# Altium footprint library PSOP-8.PcbLib: 1 footprints
Each footprint in its own frame and in the unit in brackets; x right, y up, seen from the top. Pads: shape width x height; smd on the part's side, far side on the other; paste and mask are expansions set on the pad; w line width, h text height; cw(c..) or ccw(c..) is an arc to the next point about the centre after c.
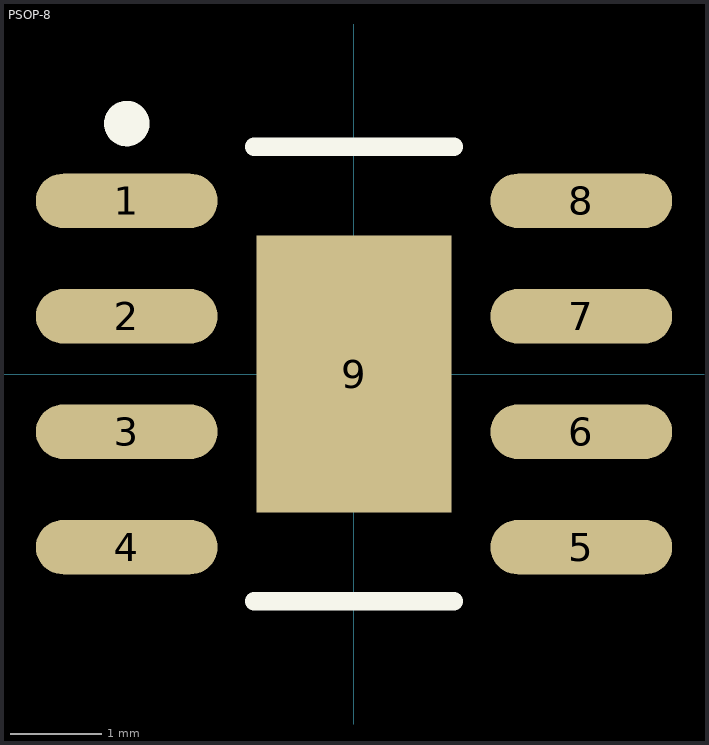
[diagram p0: the footprint, top view; thin cyan lines are the x and y axes]

## PSOP-8 [mm]
pads (9):
  oval 2x0.6 smd: 1(-2.5,1.905) 2(-2.5,0.635) 3(-2.5,-0.635) 4(-2.5,-1.905) 5(2.5,-1.905) 6(2.5,-0.635) 7(2.5,0.635) 8(2.5,1.905)
  rect 2.15x3.05 smd: 9(0,0)
Top Overlay:
  circle w0.25: c-2.5,2.755 r0.125
  lines w0.2: -1.1,-2.5 1.1,-2.5 ; -1.1,2.5 1.1,2.5